# EAGLE library part SKY65723-11 (library SKY65723-11)
RF Front End GPS GNSS LNA Module B13 Notch Source: Datasheet <https://www.skyworksinc.com/-/media/SkyWorks/Documents/Products/2801-2900/SKY65723_11_203921F.pdf>
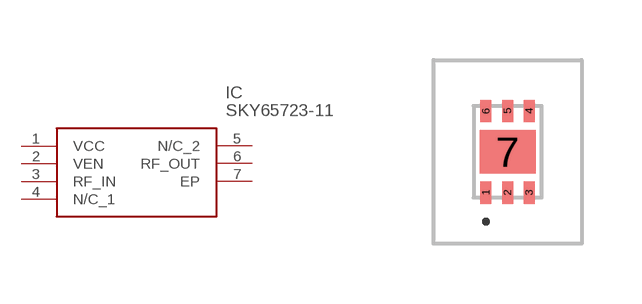
[diagram p0: symbol with the pads of SKY6572311; footprint SKY6572311]

Designator prefix IC

## SKY65723-11 (Description: RF Front End GPS GNSS LNA Module B13 Notch; Height: 0.8mm; Manufacturer_Name: Skyworks; Manufacturer_Part_Number: SKY65723-11; Mouser_Part_Number: 873-SKY65723-11; Mouser_Price-Stock: https://www.mouser.co.uk/ProductDetail/Skyworks-Solutions-Inc/SKY65723-11?qs=amGC7iS6iy%2FBJl3G6X1IOw%3D%3D)  [SKY6572311]
1  VCC
2  VEN
3  RF_IN
4  N/C_1
5  N/C_2
6  RF_OUT
7  EP

## Footprint SKY6572311 (pad centres in mm)
SKY65723-11-2
smd 0.275 x 0.56: 1 -0.54,-1.02; 2 0,-1.02; 3 0.54,-1.02; 4 0.54,1.02; 5 0,1.02; 6 -0.54,1.02
smd 1.4 x 1.08: 7 0,0